# Altium footprint library AngleVu.PcbLib: 74 footprints (part 2 of 5)
Each footprint in its own frame and in the unit in brackets; x right, y up, seen from the top. Pads: shape width x height; smd on the part's side, far side on the other; paste and mask are expansions set on the pad; w line width, h text height; cw(c..) or ccw(c..) is an arc to the next point about the centre after c.
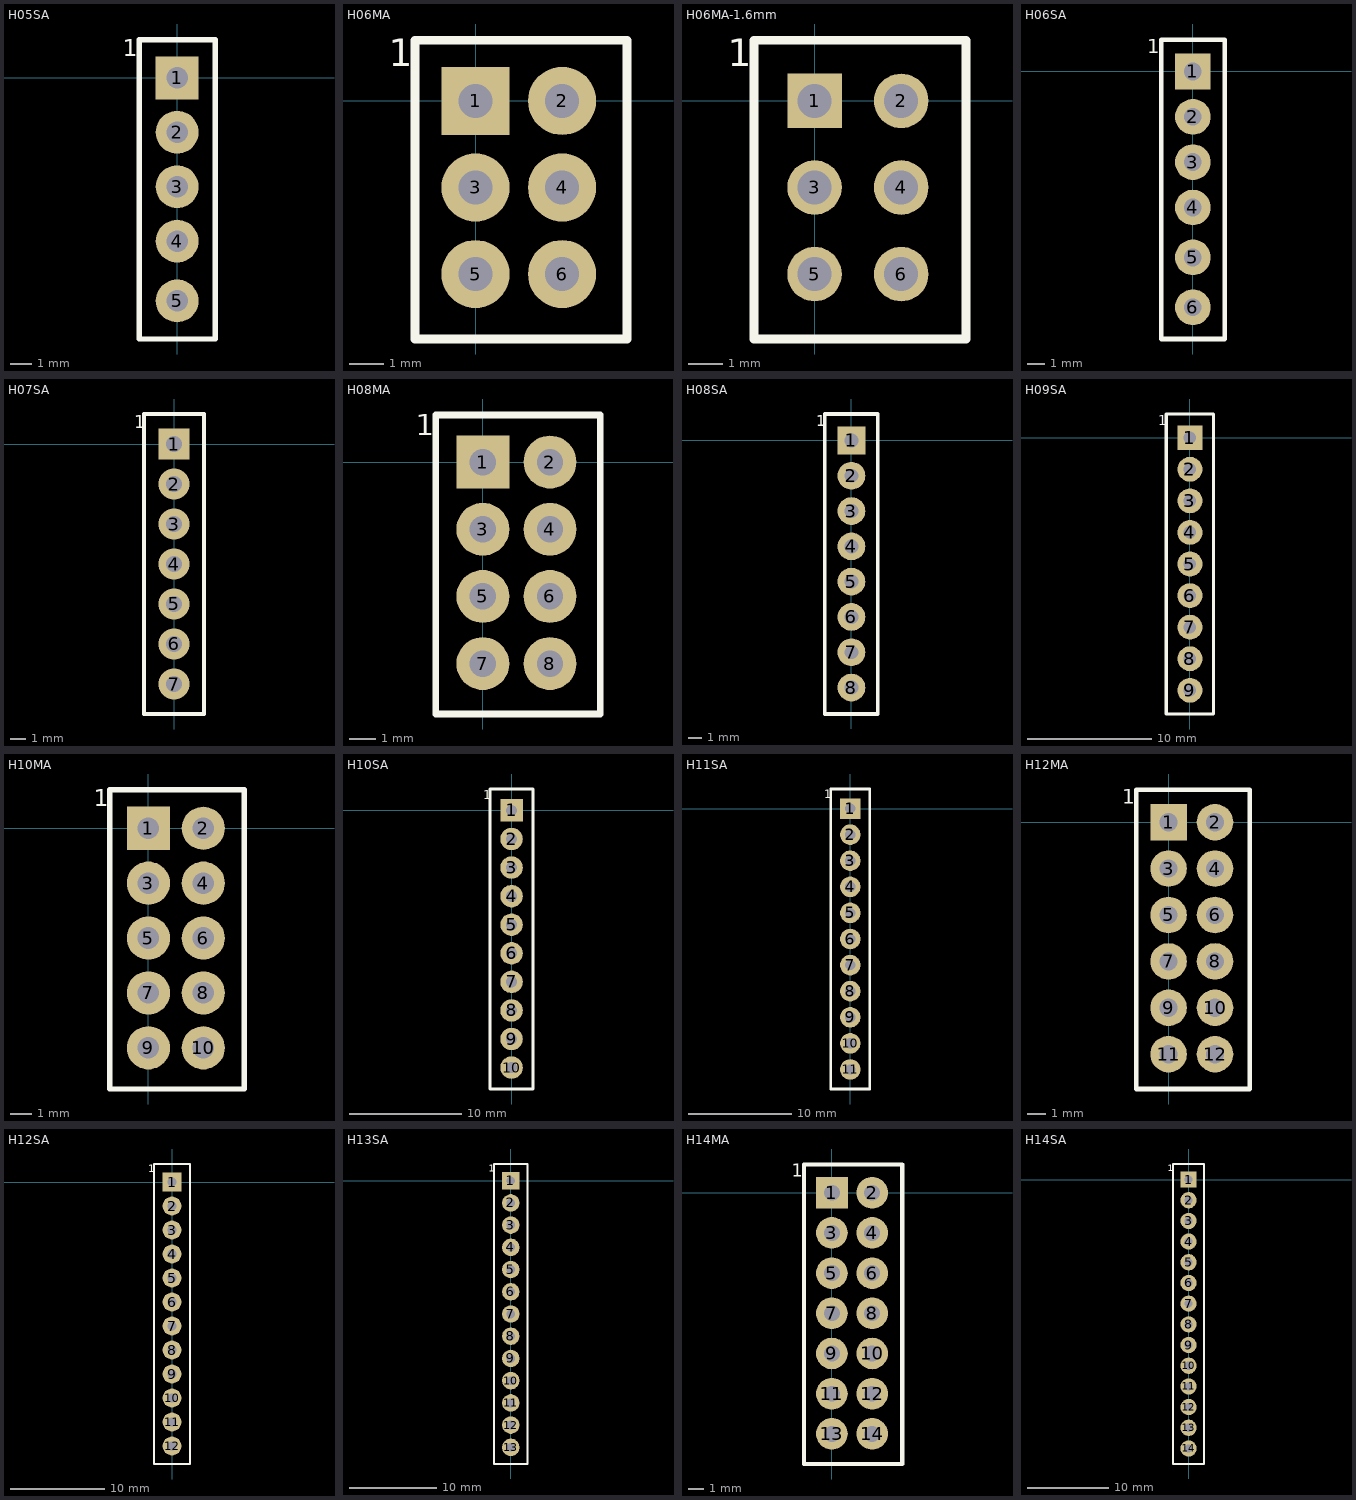
[diagram p1: the footprints below, top view; thin cyan lines are the x and y axes]

## H05SA [mm] "HEADER, SINGLE, DISTANCE = 100mil"
pads (5):
  rect 2x2 hole 1: 1(0,0)
  round 2 hole 1: 2(0,-2.54) 3(0,-5.08) 4(0,-7.62) 5(0,-10.414)
Top Overlay:
  lines w0.254: -1.778,-12.192 -1.778,1.778 1.778,1.778 1.778,-12.192 -1.778,-12.192
  text "1" at -2.54,1.016 h0.8

## H06MA [mm] "HEADER, DOUBLE, DISTANCE = 100mil"
pads (6):
  rect 2x2 hole 1: 1(0,0)
  round 2 hole 1: 2(2.54,0) 3(0,-2.54) 4(2.54,-2.54) 5(0,-5.08) 6(2.54,-5.08)
Top Overlay:
  lines w0.254: -1.778,-6.985 4.445,-6.985 4.445,1.778 -1.778,1.778 -1.778,-6.985
  text "1" at -2.54,1.016 h0.8

## H06MA-1.6mm [mm] "HEADER, DOUBLE, DISTANCE = 100mil"
pads (6):
  rect 1.6x1.6 hole 1: 1(0,0)
  round 1.6 hole 1: 2(2.54,0) 3(0,-2.54) 4(2.54,-2.54) 5(0,-5.08) 6(2.54,-5.08)
Top Overlay:
  lines w0.254: -1.778,-6.985 4.445,-6.985 4.445,1.778 -1.778,1.778 -1.778,-6.985
  text "1" at -2.54,1.016 h0.8

## H06SA [mm] "HEADER, SINGLE, DISTANCE = 100mil"
pads (6):
  rect 2x2 hole 1: 1(0,0)
  round 2 hole 1: 2(0,-2.54) 3(0,-5.08) 4(0,-7.62) 5(0,-10.414) 6(0,-13.208)
Top Overlay:
  lines w0.254: -1.778,-14.986 1.778,-14.986 1.778,1.778 -1.778,1.778 -1.778,-14.986
  text "1" at -2.54,1.016 h0.8

## H07SA [mm] "HEADER, SINGLE, DISTANCE = 100mil"
pads (7):
  rect 2x2 hole 1: 1(0,0)
  round 2 hole 1: 2(0,-2.54) 3(0,-5.08) 4(0,-7.62) 5(0,-10.16) 6(0,-12.7) 7(0,-15.24)
Top Overlay:
  lines w0.254: -1.905,-17.145 -1.905,1.905 1.905,1.905 1.905,-17.145 -1.905,-17.145
  text "1" at -2.54,1.016 h0.8

## H08MA [mm] "HEADER, DOUBLE, DISTANCE = 100mil"
pads (8):
  rect 2x2 hole 1: 1(0,0)
  round 2 hole 1: 2(2.54,0) 3(0,-2.54) 4(2.54,-2.54) 5(0,-5.08) 6(2.54,-5.08) 7(0,-7.62) 8(2.54,-7.62)
Top Overlay:
  lines w0.254: -1.778,-9.525 -1.778,1.778 4.445,1.778 4.445,-9.525 -1.778,-9.525
  text "1" at -2.54,1.016 h0.8

## H08SA [mm] "HEADER, SINGLE, DISTANCE = 100mil"
pads (8):
  rect 2x2 hole 1: 1(0,0)
  round 2 hole 1: 2(0,-2.54) 3(0,-5.08) 4(0,-7.62) 5(0,-10.16) 6(0,-12.7) 7(0,-15.24) 8(0,-17.78)
Top Overlay:
  lines w0.254: -1.905,-19.685 -1.905,1.905 1.905,1.905 1.905,-19.685 -1.905,-19.685
  text "1" at -2.54,1.016 h0.8

## H09SA [mm] "HEADER, SINGLE, DISTANCE = 100mil"
pads (9):
  rect 2x2 hole 1: 1(0,0)
  round 2 hole 1: 2(0,-2.54) 3(0,-5.08) 4(0,-7.62) 5(0,-10.16) 6(0,-12.7) 7(0,-15.24) 8(0,-17.78) 9(0,-20.32)
Top Overlay:
  lines w0.254: -1.905,-22.225 1.905,-22.225 1.905,1.905 -1.905,1.905 -1.905,-22.225
  text "1" at -2.54,1.016 h0.8

## H10MA [mm] "HEADER, DOUBLE, DISTANCE = 100mil"
pads (10):
  rect 2x2 hole 1: 1(0,0)
  round 2 hole 1: 2(2.54,0) 3(0,-2.54) 4(2.54,-2.54) 5(0,-5.08) 6(2.54,-5.08) 7(0,-7.62) 8(2.54,-7.62) 9(0,-10.16) 10(2.54,-10.16)
Top Overlay:
  lines w0.254: -1.778,-12.065 -1.778,1.778 4.445,1.778 4.445,-12.065 -1.778,-12.065
  text "1" at -2.54,1.016 h0.8

## H10SA [mm] "HEADER, SINGLE, DISTANCE = 100mil"
pads (10):
  rect 2x2 hole 1: 1(0,0)
  round 2 hole 1: 2(0,-2.54) 3(0,-5.08) 4(0,-7.62) 5(0,-10.16) 6(0,-12.7) 7(0,-15.24) 8(0,-17.78) 9(0,-20.32) 10(0,-22.86)
Top Overlay:
  lines w0.254: -1.905,-24.765 1.905,-24.765 1.905,1.905 -1.905,1.905 -1.905,-24.765
  text "1" at -2.54,1.016 h0.8

## H11SA [mm] "HEADER, SINGLE, DISTANCE = 100mil"
pads (11):
  rect 2x2 hole 1: 1(0,0)
  round 2 hole 1: 2(0,-2.54) 3(0,-5.08) 4(0,-7.62) 5(0,-10.16) 6(0,-12.7) 7(0,-15.24) 8(0,-17.78) 9(0,-20.32) 10(0,-22.86) 11(0,-25.4)
Top Overlay:
  lines w0.254: -1.905,-27.305 1.905,-27.305 1.905,1.905 -1.905,1.905 -1.905,-27.305
  text "1" at -2.54,1.016 h0.8

## H12MA [mm] "HEADER, DOUBLE, DISTANCE = 100mil"
pads (12):
  rect 2x2 hole 1: 1(0,0)
  round 2 hole 1: 2(2.54,0) 3(0,-2.54) 4(2.54,-2.54) 5(0,-5.08) 6(2.54,-5.08) 7(0,-7.62) 8(2.54,-7.62) 9(0,-10.16) 10(2.54,-10.16) 11(0,-12.7) 12(2.54,-12.7)
Top Overlay:
  lines w0.254: -1.778,-14.605 -1.778,1.778 4.445,1.778 4.445,-14.605 -1.778,-14.605
  text "1" at -2.54,1.016 h0.8

## H12SA [mm] "HEADER, SINGLE, DISTANCE = 100mil"
pads (12):
  rect 2x2 hole 1: 1(0,0)
  round 2 hole 1: 2(0,-2.54) 3(0,-5.08) 4(0,-7.62) 5(0,-10.16) 6(0,-12.7) 7(0,-15.24) 8(0,-17.78) 9(0,-20.32) 10(0,-22.86) 11(0,-25.4) 12(0,-27.94)
Top Overlay:
  lines w0.254: -1.905,-29.845 1.905,-29.845 1.905,1.905 -1.905,1.905 -1.905,-29.845
  text "1" at -2.54,1.016 h0.8

## H13SA [mm] "HEADER, SINGLE, DISTANCE = 100mil"
pads (13):
  rect 2x2 hole 1: 1(0,0)
  round 2 hole 1: 2(0,-2.54) 3(0,-5.08) 4(0,-7.62) 5(0,-10.16) 6(0,-12.7) 7(0,-15.24) 8(0,-17.78) 9(0,-20.32) 10(0,-22.86) 11(0,-25.4) 12(0,-27.94) 13(0,-30.48)
Top Overlay:
  lines w0.254: -1.905,-32.385 -1.905,1.905 1.905,1.905 1.905,-32.385 -1.905,-32.385
  text "1" at -2.54,1.016 h0.8

## H14MA [mm] "HEADER, DOUBLE, DISTANCE = 100mil"
pads (14):
  rect 2x2 hole 1: 1(0,0)
  round 2 hole 1: 2(2.54,0) 3(0,-2.54) 4(2.54,-2.54) 5(0,-5.08) 6(2.54,-5.08) 7(0,-7.62) 8(2.54,-7.62) 9(0,-10.16) 10(2.54,-10.16) 11(0,-12.7) 12(2.54,-12.7) 13(0,-15.24) 14(2.54,-15.24)
Top Overlay:
  lines w0.254: -1.778,-17.145 -1.778,1.778 4.445,1.778 4.445,-17.145 -1.778,-17.145
  text "1" at -2.54,1.016 h0.8

## H14SA [mm] "HEADER, SINGLE, DISTANCE = 100mil"
pads (14):
  rect 2x2 hole 1: 1(0,0)
  round 2 hole 1: 2(0,-2.54) 3(0,-5.08) 4(0,-7.62) 5(0,-10.16) 6(0,-12.7) 7(0,-15.24) 8(0,-17.78) 9(0,-20.32) 10(0,-22.86) 11(0,-25.4) 12(0,-27.94) 13(0,-30.48) 14(0,-33.02)
Top Overlay:
  lines w0.254: -1.905,-34.925 -1.905,1.905 1.905,1.905 1.905,-34.925 -1.905,-34.925
  text "1" at -2.54,1.016 h0.8